# Altium schematic symbol library Connectors.SchLib: 9 symbols
Pins are listed as number, name and electrical type; pins without a type are passive.

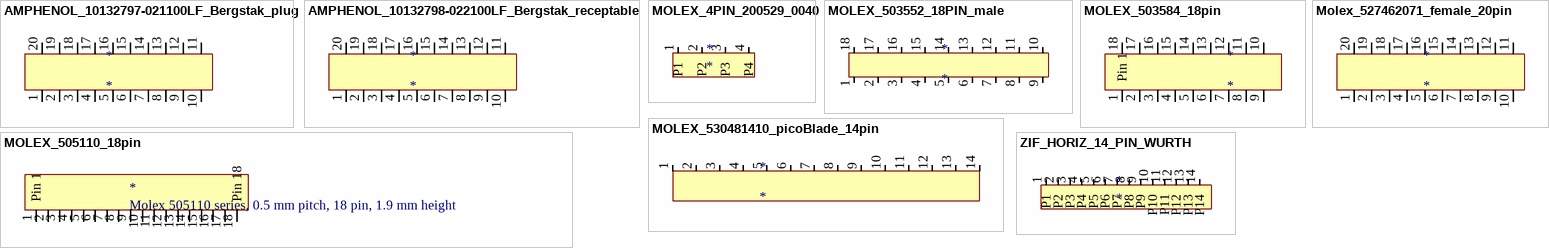
[diagram p0: symbols AMPHENOL_10132797-021100LF_Bergstak_plug to ZIF_HORIZ_14_PIN_WURTH]

## AMPHENOL_10132797-021100LF_Bergstak_plug
designator *
20 pin, 0.5 mm pitch, 3 mm mated height, plug/male
footprint AMPHENOL_10132797-021100LF_Bergstak_plug (plug/male, 0.5 mm pitch, 20 pin, 3 mm mated height)
pins: 1, 2, 3, 4, 5, 6, 7, 8, 9, 10, 11, 12, 13, 14, 15, 16, 17, 18, 19, 20

## AMPHENOL_10132798-022100LF_Bergstak_receptable
designator *
20 pin, 0.5 mm pitch, 3 mm mated height, female/receptable
footprint AMPHENOL_10132798-022100LF_Bergstak_receptable (receptable/female, 0.5 mm pitch, 20 pin, 3 mm mated height)
pins: 1, 2, 3, 4, 5, 6, 7, 8, 9, 10, 11, 12, 13, 14, 15, 16, 17, 18, 19, 20

## MOLEX_4PIN_200529_0040
designator *
footprint MOLEX_4_PIN_200529_0040 (Molex 200529 ZIF 4 Pin bottom contact)
pins: 1 P1, 2 P2, 3 P3, 4 P4

## MOLEX_503552_18PIN_male
designator *
footprint MOLEX_503552_18PIN_male (18 pin male mezzanine connector)
pins: 1, 2, 3, 4, 5, 6, 7, 8, 9, 10, 11, 12, 13, 14, 15, 16, 17, 18

## MOLEX_503584_18pin
designator *
footprint MOLEX_503548_18pin_female (18 pin mezzaine connector)
pins: 1 Pin 1, 2, 3, 4, 5, 6, 7, 8, 9, 10, 11, 12, 13, 14, 15, 16, 17, 18

## MOLEX_505110_18pin
designator *, comment Molex 505110 series, 0.5 mm pitch, 18 pin, 1.9 mm height
footprint MOLEX_505110_18pin (Molex 505110 series, 0.5 mm pitch, 18 pin, 1.9 mm height)
pins: 1 Pin 1, 2, 3, 4, 5, 6, 7, 8, 9, 10, 11, 12, 13, 14, 15, 16, 17, 18 Pin 18

## Molex_527462071_female_20pin
designator *
footprint Molex_527462071_female_20pin
pins: 1, 2, 3, 4, 5, 6, 7, 8, 9, 10, 11, 12, 13, 14, 15, 16, 17, 18, 19, 20

## MOLEX_530481410_picoBlade_14pin
designator *
footprint MOLEX_530481410_picoBlade_14pin (pico Blade connector wire-to-board)
pins: 1, 2, 3, 4, 5, 6, 7, 8, 9, 10, 11, 12, 13, 14

## ZIF_HORIZ_14_PIN_WURTH
designator *
footprint ZIF_HORIZ_14_PIN_WURTH (WR-FPC SMT ZIF Horizontal Back Locking, 687114182122)
pins: 1 P1, 2 P2, 3 P3, 4 P4, 5 P5, 6 P6, 7 P7, 8 P8, 9 P9, 10 P10, 11 P11, 12 P12, 13 P13, 14 P14